# Altium schematic symbol library Schlib1.SchLib: 10 symbols
Pins are listed as number, name and electrical type; pins without a type are passive.

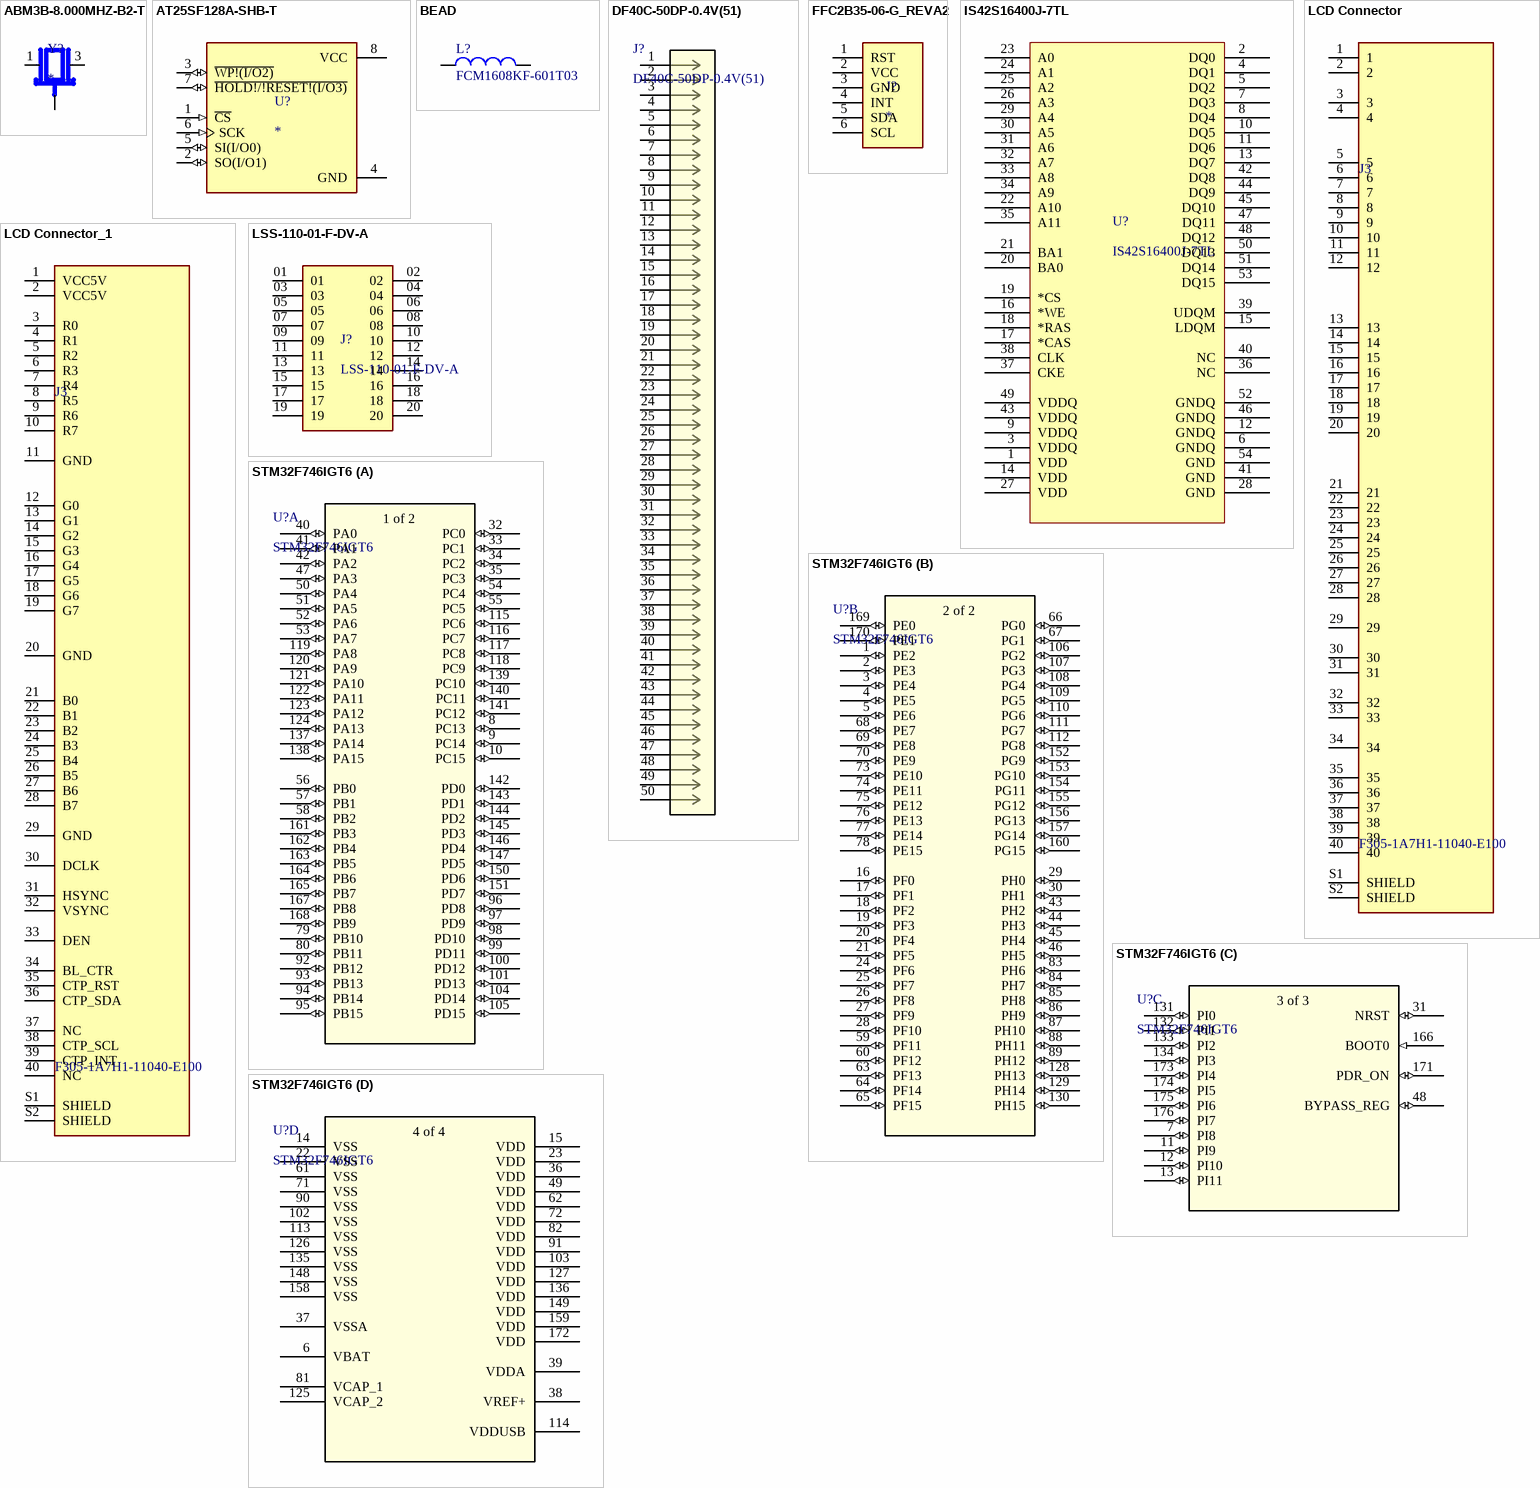
[diagram p0: symbols ABM3B-8.000MHZ-B2-T to STM32F746IGT6]

## ABM3B-8.000MHZ-B2-T
designator Y?
8MHz Â±20ppm Crystal 18pF 200 Ohms 4-SMD, No Lead; MF: Abracon; MP: ABM3B-8.000MHZ-B2-T; Check_prices: https://www.snapeda.com/parts/ABM3B-8.000MHZ-B2-T/Abracon%20LLC/view-part/42698/?ref=eda; Price: None; SnapEDA_Link: https://www.snapeda.com/parts/ABM3B-8.000MHZ-B2-T/Abracon%20LLC/view-part/42698/?ref=snap; Value: *; Availability: Good; Package: SMD-4 Abracon LLC; Purchase-URL: https://pricing.snapeda.com/search/part/ABM3B-8.000MHZ-B2-T/?ref=eda
footprint OSC_ABM3B-8.000MHZ-B2-T
pins: 1, 2 GND (power), 3, 4 GND (power)

## AT25SF128A-SHB-T
designator U?
128 Mbit Serial NOR Flash Memory with Dual and Quad I/O Support; MF: Dialog Semiconductor; MP: AT25SF128A-SHB-T; Value: *; Purchase-URL: https://pricing.snapeda.com/search/part/AT25SF128A-SHB-T/?ref=eda; Package: SOIC-8 Dialog Semiconductor; Check_prices: https://www.snapeda.com/parts/AT25SF128A-SHB-T/Dialog%20Semiconductor/view-part/5488499/?ref=eda; SnapEDA_Link: https://www.snapeda.com/parts/AT25SF128A-SHB-T/Dialog%20Semiconductor/view-part/5488499/?ref=snap; Price: None; Availability: Warning
footprint SOIC127P790X216-8N
pins: 1 ~{CS} (in), 2 SO(I/O1) (io), 3 ~{WP!(I/O2)} (io), 4 GND (power), 5 SI(I/O0) (io), 6 SCK (in), 7 ~{HOLD!/!RESET!(I/O3)} (io), 8 VCC (power)

## BEAD
designator L?, comment FCM1608KF-601T03
Ferrite Bead of STM32; Published: 8-Jun-2000; Revision: July-2002: Re-released for DXP Platform.; Publisher: Altium Limited; Manuf_Part_1: FCM1608KF-601T03; Order: FCM1608KF-601T03
footprint FCM1608KF-601T03
pins: 1, 2

## DF40C-50DP-0.4V(51)
designator J?
50 Position Connector Plug, Outer Shroud Contacts Surface Mount Gold; Mfr_Name: Hirose; Copyright: Copyright (C) 2022 Ultra Librarian. All rights reserved.; Manufacturer_Part_Number: DF40C-50DP-0.4V(51); Digi-Key_Part_Number_1: H11626CT-ND; Digi-Key_Part_Number_2: H11626DKR-ND; Digi-Key_Part_Number_3: H11626TR-ND; Digi-Key_Part_Number_4: H11626TR-NDL; RefDes: RefDes; Type: DEV
footprint CONN50_6p6X2p9_hdr_HIR
pins: 1, 2, 3, 4, 5, 6, 7, 8, 9, 10, 11, 12, 13, 14, 15, 16, 17, 18, 19, 20, 21, 22, 23, 24, 25, 26, 27, 28, 29, 30, 31, 32, 33, 34, 35, 36, 37, 38, 39, 40, 41, 42, 43, 44, 45, 46, 47, 48, 49, 50

## FFC2B35-06-G_REVA2
designator J?
0.5mm Side entry Flat Flexible Cable Connector; MF: Global Connector Technology; MP: FFC2B35-06-G; SnapEDA_Link: https://www.snapeda.com/parts/FFC2B35-06-G/Global+Connector+Technology/view-part/?ref=snap; Price: None; Check_prices: https://www.snapeda.com/parts/FFC2B35-06-G/Global+Connector+Technology/view-part/?ref=eda; Availability: In Stock; Value: *; Package: None; Purchase-URL: https://pricing.snapeda.com/search/part/FFC2B35-06-G/?ref=eda
footprint GCT_FFC2B35-06-G_REVA2
pins: 1 RST, 2 VCC, 3 GND, 4 INT, 5 SDA, 6 SCL

## IS42S16400J-7TL
designator U?
No Description AvailablSDRAM Memory IC 64Mb (4M x 16) Parallel 143 MHz 5.4 ns 54-TSOP IIe; Vendor: ISSI; Built_By: EMA_Cory; SourceLibrary: Add_to_database_2020-12-24; Datasheet: http://www.issi.com/WW/pdf/42-45S16400J.pdf; Manufacturer_Part_Number: IS42S16400J-7TL; Copyright: Copyright (C) 2018 Accelerated Designs. All rights reserved; RefDes: RefDes; Type: DEV; ComponentLink1Description: New link; ComponentLink1URL: https://www.digikey.be/en/products/detail/issi-integrated-silicon-solution-inc/IS42S16400J-7TL/2708623
footprint sdram
pins: 1 VDD, 2 DQ0, 3 VDDQ, 4 DQ1, 5 DQ2, 6 GNDQ, 7 DQ3, 8 DQ4, 9 VDDQ, 10 DQ5, 11 DQ6, 12 GNDQ, 13 DQ7, 14 VDD, 15 LDQM, 16 *WE, 17 *CAS, 18 *RAS, 19 *CS, 20 BA0, 21 BA1, 22 A10, 23 A0, 24 A1, 25 A2, 26 A3, 27 VDD, 28 GND, 29 A4, 30 A5, 31 A6, 32 A7, 33 A8, 34 A9, 35 A11, 36 NC, 37 CKE, 38 CLK, 39 UDQM, 40 NC, 41 GND, 42 DQ8, 43 VDDQ, 44 DQ9, 45 DQ10, 46 GNDQ, 47 DQ11, 48 DQ12, 49 VDDQ, 50 DQ13, 51 DQ14, 52 GNDQ, 53 DQ15, 54 GND

## LCD Connector
designator J3, comment F305-1A7H1-11040-E100
40 Position FFC, FPC Connector Contacts, Bottom 0.020" (0.50mm) Surface Mount, Right Angle; MF: Amphenol ICC (FCI); MP: F305-1A7H1-11040-E100; Price: None; Availability: Unavailable; Package: None; Digikey_Link: https://www.digikey.com/en/products/detail/amphenol-icc-fci/F305-1A7H1-11040-E100/11564644; Value: *
footprint F305-1A7H1-11040-E100
pins: 1, 2, 3, 4, 5, 6, 7, 8, 9, 10, 11, 12, 13, 14, 15, 16, 17, 18, 19, 20, 21, 22, 23, 24, 25, 26, 27, 28, 29, 30, 31, 32, 33, 34, 35, 36, 37, 38, 39, 40, S1 SHIELD, S2 SHIELD

## LCD Connector_1
designator J3, comment F305-1A7H1-11040-E100
40 Position FFC, FPC Connector Contacts, Bottom 0.020" (0.50mm) Surface Mount, Right Angle; MF: Amphenol ICC (FCI); MP: F305-1A7H1-11040-E100; Price: None; Availability: Unavailable; Package: None; Digikey_Link: https://www.digikey.com/en/products/detail/amphenol-icc-fci/F305-1A7H1-11040-E100/11564644; Value: *
footprint F305-1A7H1-11040-E100
pins: 1 VCC5V, 2 VCC5V, 3 R0, 4 R1, 5 R2, 6 R3, 7 R4, 8 R5, 9 R6, 10 R7, 11 GND, 12 G0, 13 G1, 14 G2, 15 G3, 16 G4, 17 G5, 18 G6, 19 G7, 20 GND, 21 B0, 22 B1, 23 B2, 24 B3, 25 B4, 26 B5, 27 B6, 28 B7, 29 GND, 30 DCLK, 31 HSYNC, 32 VSYNC, 33 DEN, 34 BL_CTR, 35 CTP_RST, 36 CTP_SDA, 37 NC, 38 CTP_SCL, 39 CTP_INT, 40 NC, S1 SHIELD, S2 SHIELD

## LSS-110-01-F-DV-A
designator J?
20 Position Connector Self Mating, Non-Gendered, Hermaphroditic Surface Mount Gold; MF: Samtec; Package: None; MP: LSS-110-01-F-DV-A; Value: *; Availability: Unavailable; Price: None; ComponentLink1Description: samtec; ComponentLink1URL: https://www.samtec.com/products/lss-110-01-f-dv-a; ComponentLink2Description: digikey; ComponentLink2URL: https://www.digikey.com/en/products/detail/samtec-inc/LSS-110-01-F-DV-A/6193353
footprint SAMTEC_LSS-110-01-F-DV-A
pins: 01, 02, 03, 04, 05, 06, 07, 08, 09, 10, 11, 12, 13, 14, 15, 16, 17, 18, 19, 20

## STM32F746IGT6
designator U?
No Description Available; Built_By: EMA_Jessica; Vendor: STMicroelectronics; SourceLibrary: Add_to_database_2020-10-19; Copyright: Copyright (C) 2018 Accelerated Designs. All rights reserved; Manufacturer_Part_Number: STM32F746IGT6; RefDes: RefDes; Type: DEV
footprint LQFP176_24X24_STM
part A pins: 8 PC13 (io), 9 PC14 (io), 10 PC15 (io), 32 PC0 (io), 33 PC1 (io), 34 PC2 (io), 35 PC3 (io), 40 PA0 (io), 41 PA1 (io), 42 PA2 (io), 47 PA3 (io), 50 PA4 (io), 51 PA5 (io), 52 PA6 (io), 53 PA7 (io), 54 PC4 (io), 55 PC5 (io), 56 PB0 (io), 57 PB1 (io), 58 PB2 (io), 79 PB10 (io), 80 PB11 (io), 92 PB12 (io), 93 PB13 (io), 94 PB14 (io), 95 PB15 (io), 96 PD8 (io), 97 PD9 (io), 98 PD10 (io), 99 PD11 (io), 100 PD12 (io), 101 PD13 (io), 104 PD14 (io), 105 PD15 (io), 115 PC6 (io), 116 PC7 (io), 117 PC8 (io), 118 PC9 (io), 119 PA8 (io), 120 PA9 (io), 121 PA10 (io), 122 PA11 (io), 123 PA12 (io), 124 PA13 (io), 137 PA14 (io), 138 PA15 (io), 139 PC10 (io), 140 PC11 (io), 141 PC12 (io), 142 PD0 (io), 143 PD1 (io), 144 PD2 (io), 145 PD3 (io), 146 PD4 (io), 147 PD5 (io), 150 PD6 (io), 151 PD7 (io), 161 PB3 (io), 162 PB4 (io), 163 PB5 (io), 164 PB6 (io), 165 PB7 (io), 167 PB8 (io), 168 PB9 (io)
part B pins: 1 PE2 (io), 2 PE3 (io), 3 PE4 (io), 4 PE5 (io), 5 PE6 (io), 16 PF0 (io), 17 PF1 (io), 18 PF2 (io), 19 PF3 (io), 20 PF4 (io), 21 PF5 (io), 24 PF6 (io), 25 PF7 (io), 26 PF8 (io), 27 PF9 (io), 28 PF10 (io), 29 PH0 (io), 30 PH1 (io), 43 PH2 (io), 44 PH3 (io), 45 PH4 (io), 46 PH5 (io), 59 PF11 (io), 60 PF12 (io), 63 PF13 (io), 64 PF14 (io), 65 PF15 (io), 66 PG0 (io), 67 PG1 (io), 68 PE7 (io), 69 PE8 (io), 70 PE9 (io), 73 PE10 (io), 74 PE11 (io), 75 PE12 (io), 76 PE13 (io), 77 PE14 (io), 78 PE15 (io), 83 PH6 (io), 84 PH7 (io), 85 PH8 (io), 86 PH9 (io), 87 PH10 (io), 88 PH11 (io), 89 PH12 (io), 106 PG2 (io), 107 PG3 (io), 108 PG4 (io), 109 PG5 (io), 110 PG6 (io), 111 PG7 (io), 112 PG8 (io), 128 PH13 (io), 129 PH14 (io), 130 PH15 (io), 152 PG9 (io), 153 PG10 (io), 154 PG11 (io), 155 PG12 (io), 156 PG13 (io), 157 PG14 (io), 160 PG15 (io), 169 PE0 (io), 170 PE1 (io)
part C pins: 7 PI8 (io), 11 PI9 (io), 12 PI10 (io), 13 PI11 (io), 31 NRST (io), 48 BYPASS_REG (io), 131 PI0 (io), 132 PI1 (io), 133 PI2 (io), 134 PI3 (io), 166 BOOT0 (in), 171 PDR_ON (io), 173 PI4 (io), 174 PI5 (io), 175 PI6 (io), 176 PI7 (io)
part D pins: 6 VBAT (power), 14 VSS (power), 15 VDD (power), 22 VSS (power), 23 VDD (power), 36 VDD (power), 37 VSSA (power), 38 VREF+ (power), 39 VDDA (power), 49 VDD (power), 61 VSS (power), 62 VDD (power), 71 VSS (power), 72 VDD (power), 81 VCAP_1 (power), 82 VDD (power), 90 VSS (power), 91 VDD (power), 102 VSS (power), 103 VDD (power), 113 VSS (power), 114 VDDUSB (power), 125 VCAP_2 (power), 126 VSS (power), 127 VDD (power), 135 VSS (power), 136 VDD (power), 148 VSS (power), 149 VDD (power), 158 VSS (power), 159 VDD (power), 172 VDD (power)
part A text: 1 of 2
part B text: 2 of 2
part C text: 3 of 3
part D text: 4 of 4